# Altium schematic symbol library LT3509.SchLib: 1 symbol
Pins are listed as number, name and electrical type; pins without a type are passive.

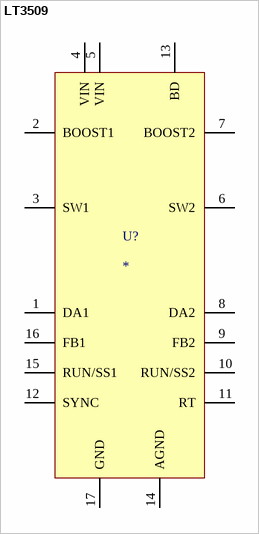
[diagram p0: symbol LT3509]

## LT3509
designator U?
LT3509; digikey: LT3509EMSE#PBF-ND
footprint LT3509
footprint LT3509
pins: 1 DA1, 2 BOOST1, 3 SW1, 4 VIN, 5 VIN, 6 SW2, 7 BOOST2, 8 DA2, 9 FB2, 10 RUN/SS2, 11 RT, 12 SYNC, 13 BD, 14 AGND (power), 15 RUN/SS1, 16 FB1, 17 GND (power)